# Altium schematic symbol library TC2030-IDC.SchLib: 2 symbols
Pins are listed as number, name and electrical type; pins without a type are passive.

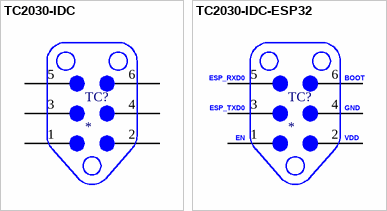
[diagram p0: symbols TC2030-IDC to TC2030-IDC-ESP32]

## TC2030-IDC
designator TC?
footprint TC2030-IDC
footprint TC2030-IDC-NL
pins: 1, 2, 3, 4, 5, 6

## TC2030-IDC-ESP32
designator TC?
footprint TC2030-IDC
footprint TC2030-IDC-NL
pins: 1 EN, 2 VDD, 3 ESP_TXD0, 4 GND, 5 ESP_RXD0, 6 BOOT